# Altium footprint library aiskylab-14Connectors-17HeadersAndWireHousing.PcbLib: 23 footprints (part 1 of 2)
Each footprint in its own frame and in the unit in brackets; x right, y up, seen from the top. Pads: shape width x height; smd on the part's side, far side on the other; paste and mask are expansions set on the pad; w line width, h text height; cw(c..) or ccw(c..) is an arc to the next point about the centre after c.
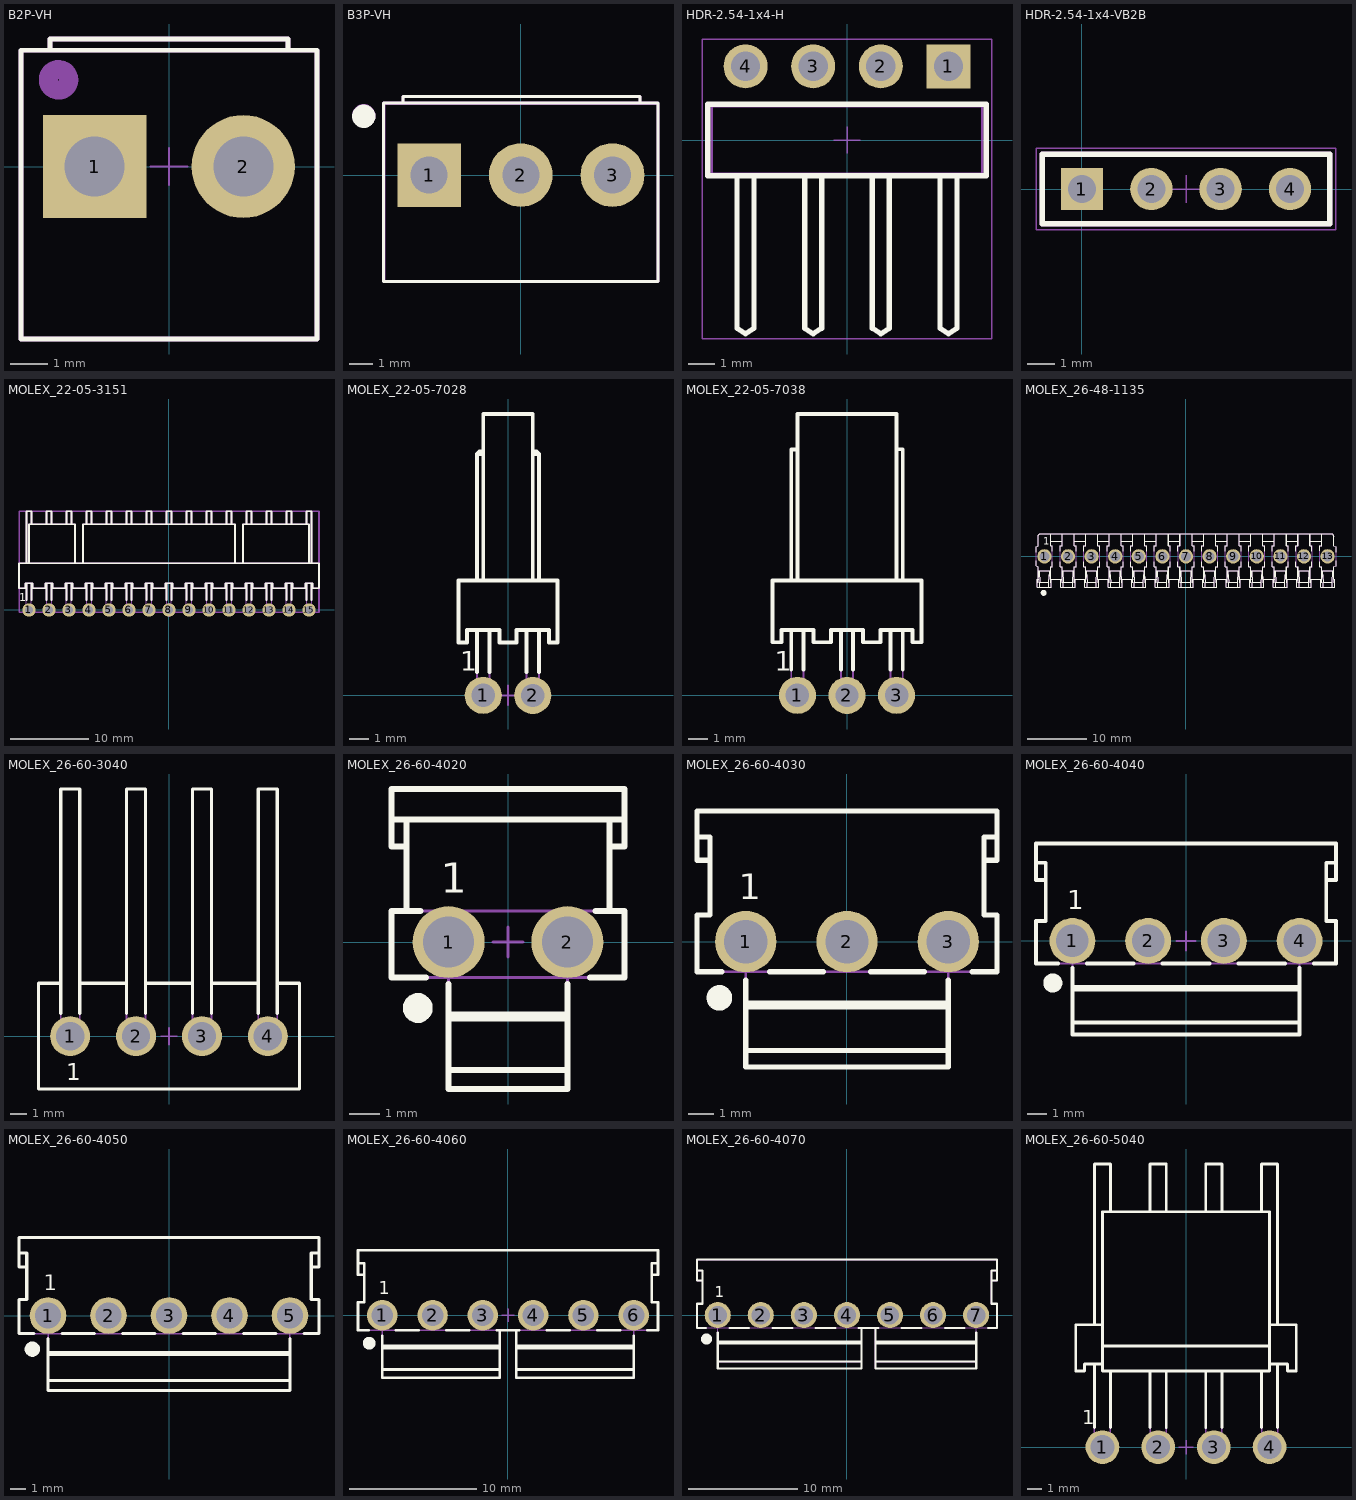
[diagram p0: the footprints below, top view; thin cyan lines are the x and y axes]

## B2P-VH [mm] "VH Connector , Pitch 3.96mm"
height 14.6
pads (2):
  rect 2.75x2.75 hole 1.6: 1(-1.98,0)
  round 2.75 hole 1.6: 2(1.98,0)
Top Overlay:
  lines w0.127: -3.175,3.1 -3.175,3.4 3.175,3.4 3.175,3.1 ; -3.95,-4.6 3.95,-4.6 3.95,3.1 -3.95,3.1 -3.95,-4.6
Top Designator:
  text ".Designator" at -7.618,-0.908 h1.52
Top Assembly:
  circle w0.508: c-2.946,2.311 r0.274
  lines w0.127: -3.175,3.1 -3.175,3.4 3.175,3.4 3.175,3.1 ; -3.95,-4.6 3.95,-4.6 3.95,3.1 -3.95,3.1 -3.95,-4.6
Top Component Center:
  lines w0.05: -0.5,0 0.5,0 ; 0,-0.5 0,0.5
Top Component Outline:
  lines w0.127: -3.175,3.1 -3.175,3.4 3.175,3.4 3.175,3.1 ; -3.95,-4.6 3.95,-4.6 3.95,3.1 -3.95,3.1 -3.95,-4.6
3D body "b2p-vh.stp": height 10.9, standoff -3.5, extent -3.96,-4.95 3.9,4.15

## B3P-VH [mm]
height 14.6
pads (3):
  rect 2.75x2.75 hole 1.6: 1(-3.96,0)
  round 2.75 hole 1.6: 2(0,0) 3(3.96,0)
Top Overlay:
  circle w0.508: c-6.782,2.54 r0.25
  lines w0.127: -5.08,3.118 -5.08,3.4 5.155,3.4 5.155,3.118 ; -5.925,-4.6 -5.925,3.118 5.925,3.118 5.925,-4.6 -5.925,-4.6
Top Designator:
  text ".Designator" at -8.266,-0.908 h1.52
Top Assembly:
  circle w0.508: c-6.782,2.565 r0.25
  lines w0.127: -5.08,3.118 -5.08,3.4 5.155,3.4 5.155,3.118 ; -5.925,-4.6 -5.925,3.118 5.925,3.118 5.925,-4.6 -5.925,-4.6
Top Component Center:
  lines w0.05: -0.5,0 0.5,0 ; 0,-0.5 0,0.5
Top Component Outline:
  lines w0.127: 5.918,3.042 5.918,-4.6 -5.918,-4.6 -5.918,3.093 5.918,3.093
3D body "b3p-vh.stp": height 10.2, standoff -3.5, extent -5.91,-4.95 5.91,4.15

## HDR-2.54-1x4-H [mm] "Pin Header, pitch 2.54 mm, THT, Angled, single row, 4p"
height 2.54
pads (4):
  rect 1.65x1.65 hole 1.1: 1(3.81,2.77)
  round 1.65 hole 1.1: 2(1.27,2.77) 3(-1.27,2.77) 4(-3.81,2.77)
Top Overlay:
  lines w0.2: -4.13,-1.345 -4.13,-7.07 -3.81,-7.27 -3.49,-7.07 -3.49,-1.345 ; -1.59,-1.345 -1.59,-7.07 -1.27,-7.27 -0.95,-7.07 -0.95,-1.345 ; 0.95,-1.345 0.95,-7.07 1.27,-7.27 1.59,-7.07 1.59,-1.345 ; 3.49,-1.345 3.49,-7.07 3.81,-7.27 4.13,-7.07 4.13,-1.345 ; -5.23,-1.345 5.23,-1.345 5.23,1.345 -5.23,1.345 -5.23,-1.345
Top Designator:
  text ".Designator" at -7.618,-2.345 h1.52
Top Assembly:
  lines w0.1: -4.13,-1.27 -4.13,-7.07 -3.81,-7.27 -3.49,-7.07 -3.49,-1.27 ; -1.59,-1.27 -1.59,-7.07 -1.27,-7.27 -0.95,-7.07 -0.95,-1.27 ; 0.95,-1.27 0.95,-7.07 1.27,-7.27 1.59,-7.07 1.59,-1.27 ; 3.49,-1.27 3.49,-7.07 3.81,-7.27 4.13,-7.07 4.13,-1.27 ; -5.08,-1.27 5.08,-1.27 5.08,1.27 -5.08,1.27 -5.08,-1.27
Top Component Center:
  lines w0.05: -0.5,0 0.5,0 ; 0,-0.5 0,0.5
Top Component Outline:
  lines w0.05: -5.43,-7.47 5.43,-7.47 5.43,3.795 -5.43,3.795 -5.43,-7.47
3D body "61300411021.stp": height 2.58, standoff -2.96, extent -5.08,-7.27 5.08,3.09

## HDR-2.54-1x4-VB2B [mm] ".025 SQ Post Terminal Strip Assembly, 1x4 Pins, Vertical, 2.54mm Pitch, Male"
height 8.58
pads (4):
  rect 1.55x1.55 hole 1.02: 1(0,0)
  round 1.55 hole 1.02: 2(2.54,0) 3(5.08,0) 4(7.62,0)
Top Overlay:
  lines w0.2: -1.46,-1.27 9.08,-1.27 9.08,1.27 -1.46,1.27 -1.46,-1.27
Top Designator:
  text ".Designator" at -3.808,-0.508 h1.52
Top Assembly:
  lines w0.2: -1.46,-1.27 9.08,-1.27 9.08,1.27 -1.46,1.27 -1.46,-1.27
Top Component Center:
  lines w0.05: 3.31,0 4.31,0 ; 3.81,-0.5 3.81,0.5
Top Component Outline:
  lines w0.05: -1.685,-1.495 9.305,-1.495 9.305,1.495 -1.685,1.495 -1.685,-1.495
Top 3D Body:
  lines w0.1: -1.46,-1.27 9.08,-1.27 9.08,1.27 -1.46,1.27 -1.46,-1.27
3D body "TSW-104-08-X-S.step": height 8.38, standoff -5.08, extent -1.27,-1.27 8.89,1.27

## MOLEX_22-05-3151 [mm] "2.54mm (.100\") Pitch KK?Wire-To-Board Header, Right Angle, With Friction Lock, 15 Circuits"
height 6.6
pads (15):
  round 1.7 hole 1: 1(-17.78,0) 2(-15.24,0) 3(-12.7,0) 4(-10.16,0) 5(-7.62,0) 6(-5.08,0) 7(-2.54,0) 8(0,0) 9(2.54,0) 10(5.08,0) 11(7.62,0) 12(10.16,0) 13(12.7,0) 14(15.24,0) 15(17.78,0)
Top Overlay:
  lines w0.2: -18.098,1.25 -18.098,3.366 ; -18.098,5.906 -18.098,12.51 -17.462,12.51 -17.462,10.909 ; -17.78,5.906 -17.78,10.909 -11.938,10.909 -11.938,5.906 ; -17.462,1.25 -17.462,3.366 ; -15.557,1.25 -15.557,3.366 ; -15.557,10.909 -15.557,12.51 -14.922,12.51 -14.922,10.909 ; -14.922,1.25 -14.922,3.366 ; -13.017,1.25 -13.017,3.366 ; -13.017,10.909 -13.017,12.51 -12.382,12.51 -12.382,10.909 ; -12.382,1.25 -12.382,3.366 ; -10.922,5.906 -10.922,10.909 8.382,10.909 8.382,5.906 ; -10.477,1.25 -10.477,3.366 ; -10.477,10.909 -10.477,12.51 -9.842,12.51 -9.842,10.909 ; -9.842,1.25 -9.842,3.366 ; -7.937,1.25 -7.937,3.366 ; -7.937,10.909 -7.937,12.51 -7.302,12.51 -7.302,10.909 ; -7.302,1.25 -7.302,3.366 ; -5.397,1.25 -5.397,3.366 ; -5.397,10.909 -5.397,12.51 -4.762,12.51 -4.762,10.909 ; -4.762,1.25 -4.762,3.366 ; -2.857,1.25 -2.857,3.366 ; -2.857,10.909 -2.857,12.51 -2.222,12.51 -2.222,10.909 ; -2.222,1.25 -2.222,3.366 ; -0.317,1.25 -0.317,3.366 ; -0.317,10.909 -0.317,12.51 0.318,12.51 0.318,10.909 ; 0.318,1.25 0.318,3.366 ; 2.223,1.25 2.223,3.366 ; 2.223,10.909 2.223,12.51 2.858,12.51 2.858,10.909 ; 2.858,1.25 2.858,3.366 ; 4.763,1.25 4.763,3.366 ; 4.763,10.909 4.763,12.51 5.398,12.51 5.398,10.909 ; 5.398,1.25 5.398,3.366 ; 7.303,1.25 7.303,3.366 ; 7.303,10.909 7.303,12.51 7.938,12.51 7.938,10.909 ; 7.938,1.25 7.938,3.366 ; 9.398,5.906 9.398,10.909 17.78,10.909 17.78,5.906 ; 9.843,1.25 9.843,3.366 ; 9.843,10.909 9.843,12.51 10.478,12.51 10.478,10.909 ; 10.478,1.25 10.478,3.366 ; 12.383,1.25 12.383,3.366 ; 12.383,10.909 12.383,12.51 13.018,12.51 13.018,10.909 ; 13.018,1.25 13.018,3.366 ; 14.923,1.25 14.923,3.366 ; 14.923,10.909 14.923,12.51 15.558,12.51 15.558,10.909 ; 15.558,1.25 15.558,3.366 ; 17.463,1.25 17.463,3.366 ; 17.463,10.909 17.463,12.51 18.098,12.51 18.098,5.906 ; 18.098,1.25 18.098,3.366 ; -19.05,2.731 -18.224,2.731 -18.224,3.366 -17.335,3.366 -17.335,2.731 -15.684,2.731 -15.684,3.366 -14.795,3.366 -14.795,2.731 -13.144,2.731 -13.144,3.366 -12.255,3.366 -12.255,2.731 -10.604,2.731 -10.604,3.366 -9.715,3.366 -9.715,2.731 -8.064,2.731 -8.064,3.366 -7.175,3.366 -7.175,2.731 -5.524,2.731 -5.524,3.366 -4.635,3.366 -4.635,2.731 -2.984,2.731 -2.984,3.366 -2.095,3.366 -2.095,2.731 -0.444,2.731 -0.444,3.366 0.445,3.366 0.445,2.731 2.096,2.731 2.096,3.366 2.985,3.366 2.985,2.731 4.636,2.731 4.636,3.366 5.525,3.366 5.525,2.731 7.176,2.731 7.176,3.366 8.065,3.366 8.065,2.731 9.716,2.731 9.716,3.366 10.605,3.366 10.605,2.731 12.256,2.731 12.256,3.366 13.145,3.366 13.145,2.731 14.796,2.731 14.796,3.366 15.685,3.366 15.685,2.731 17.336,2.731 17.336,3.366 18.225,3.366 18.225,2.731 19.05,2.731 19.05,5.906 -19.05,5.906 -19.05,2.731
  text "1" at -19.027,1.12 h1
Top Designator:
  text ".Designator" at -7.631,5.327 h1.52
Top Assembly:
  lines w0.2: -18.098,1.25 -18.098,3.366 ; -18.098,5.906 -18.098,12.51 -17.462,12.51 -17.462,10.909 ; -17.78,5.906 -17.78,10.909 -11.938,10.909 -11.938,5.906 ; -17.462,1.25 -17.462,3.366 ; -15.557,1.25 -15.557,3.366 ; -15.557,10.909 -15.557,12.51 -14.922,12.51 -14.922,10.909 ; -14.922,1.25 -14.922,3.366 ; -13.017,1.25 -13.017,3.366 ; -13.017,10.909 -13.017,12.51 -12.382,12.51 -12.382,10.909 ; -12.382,1.25 -12.382,3.366 ; -10.922,5.906 -10.922,10.909 8.382,10.909 8.382,5.906 ; -10.477,1.25 -10.477,3.366 ; -10.477,10.909 -10.477,12.51 -9.842,12.51 -9.842,10.909 ; -9.842,1.25 -9.842,3.366 ; -7.937,1.25 -7.937,3.366 ; -7.937,10.909 -7.937,12.51 -7.302,12.51 -7.302,10.909 ; -7.302,1.25 -7.302,3.366 ; -5.397,1.25 -5.397,3.366 ; -5.397,10.909 -5.397,12.51 -4.762,12.51 -4.762,10.909 ; -4.762,1.25 -4.762,3.366 ; -2.857,1.25 -2.857,3.366 ; -2.857,10.909 -2.857,12.51 -2.222,12.51 -2.222,10.909 ; -2.222,1.25 -2.222,3.366 ; -0.317,1.25 -0.317,3.366 ; -0.317,10.909 -0.317,12.51 0.318,12.51 0.318,10.909 ; 0.318,1.25 0.318,3.366 ; 2.223,1.25 2.223,3.366 ; 2.223,10.909 2.223,12.51 2.858,12.51 2.858,10.909 ; 2.858,1.25 2.858,3.366 ; 4.763,1.25 4.763,3.366 ; 4.763,10.909 4.763,12.51 5.398,12.51 5.398,10.909 ; 5.398,1.25 5.398,3.366 ; 7.303,1.25 7.303,3.366 ; 7.303,10.909 7.303,12.51 7.938,12.51 7.938,10.909 ; 7.938,1.25 7.938,3.366 ; 9.398,5.906 9.398,10.909 17.78,10.909 17.78,5.906 ; 9.843,1.25 9.843,3.366 ; 9.843,10.909 9.843,12.51 10.478,12.51 10.478,10.909 ; 10.478,1.25 10.478,3.366 ; 12.383,1.25 12.383,3.366 ; 12.383,10.909 12.383,12.51 13.018,12.51 13.018,10.909 ; 13.018,1.25 13.018,3.366 ; 14.923,1.25 14.923,3.366 ; 14.923,10.909 14.923,12.51 15.558,12.51 15.558,10.909 ; 15.558,1.25 15.558,3.366 ; 17.463,1.25 17.463,3.366 ; 17.463,10.909 17.463,12.51 18.098,12.51 18.098,5.906 ; 18.098,1.25 18.098,3.366 ; -19.05,2.731 -18.224,2.731 -18.224,3.366 -17.335,3.366 -17.335,2.731 -15.684,2.731 -15.684,3.366 -14.795,3.366 -14.795,2.731 -13.144,2.731 -13.144,3.366 -12.255,3.366 -12.255,2.731 -10.604,2.731 -10.604,3.366 -9.715,3.366 -9.715,2.731 -8.064,2.731 -8.064,3.366 -7.175,3.366 -7.175,2.731 -5.524,2.731 -5.524,3.366 -4.635,3.366 -4.635,2.731 -2.984,2.731 -2.984,3.366 -2.095,3.366 -2.095,2.731 -0.444,2.731 -0.444,3.366 0.445,3.366 0.445,2.731 2.096,2.731 2.096,3.366 2.985,3.366 2.985,2.731 4.636,2.731 4.636,3.366 5.525,3.366 5.525,2.731 7.176,2.731 7.176,3.366 8.065,3.366 8.065,2.731 9.716,2.731 9.716,3.366 10.605,3.366 10.605,2.731 12.256,2.731 12.256,3.366 13.145,3.366 13.145,2.731 14.796,2.731 14.796,3.366 15.685,3.366 15.685,2.731 17.336,2.731 17.336,3.366 18.225,3.366 18.225,2.731 19.05,2.731 19.05,5.906 -19.05,5.906 -19.05,2.731
  text "1" at -19.027,1.12 h1
Top Component Center:
  lines w0.2: -0.711,0 0.787,0 ; 0,-0.787 0,0.787
Top Dimensions:
  lines w0.1: -18.28,0 -17.78,0 ; -17.78,-0.5 -17.78,0 ; -17.78,0.5 -17.78,0 ; -17.28,0 -17.78,0 ; -15.74,0 -15.24,0 ; -15.24,-0.5 -15.24,0 ; -15.24,0.5 -15.24,0 ; -14.74,0 -15.24,0 ; -13.2,0 -12.7,0 ; -12.7,-0.5 -12.7,0 ; -12.7,0.5 -12.7,0 ; -12.2,0 -12.7,0 ; -10.66,0 -10.16,0 ; -10.16,-0.5 -10.16,0 ; -10.16,0.5 -10.16,0 ; -9.66,0 -10.16,0 ; -8.12,0 -7.62,0 ; -7.62,-0.5 -7.62,0 ; -7.62,0.5 -7.62,0 ; -7.12,0 -7.62,0 ; -5.58,0 -5.08,0 ; -5.08,-0.5 -5.08,0 ; -5.08,0.5 -5.08,0 ; -4.58,0 -5.08,0 ; -3.04,0 -2.54,0 ; -2.54,-0.5 -2.54,0 ; -2.54,0.5 -2.54,0 ; -2.04,0 -2.54,0 ; -0.5,0 0,0 ; 0,-0.5 0,0 ; 0,0.5 0,0 ; 0.5,0 0,0 ; 2.04,0 2.54,0 ; 2.54,-0.5 2.54,0 ; 2.54,0.5 2.54,0 ; 3.04,0 2.54,0 ; 4.58,0 5.08,0 ; 5.08,-0.5 5.08,0 ; 5.08,0.5 5.08,0 ; 5.58,0 5.08,0 ; 7.12,0 7.62,0 ; 7.62,-0.5 7.62,0 ; 7.62,0.5 7.62,0 ; 8.12,0 7.62,0 ; 9.66,0 10.16,0 ; 10.16,-0.5 10.16,0 ; 10.16,0.5 10.16,0 ; 10.66,0 10.16,0 ; 12.2,0 12.7,0 ; 12.7,-0.5 12.7,0 ; 12.7,0.5 12.7,0 ; 13.2,0 12.7,0 ; 14.74,0 15.24,0 ; 15.24,-0.5 15.24,0 ; 15.24,0.5 15.24,0 ; 15.74,0 15.24,0 ; 17.28,0 17.78,0 ; 17.78,-0.5 17.78,0 ; 17.78,0.5 17.78,0 ; 18.28,0 17.78,0
Top Component Outline:
  lines w0.2: -19.025,-0.305 19.05,-0.305 19.05,12.522 -19.025,12.522 -19.025,-0.305
Top 3D Body:
  drawing of 163 lines, arcs and shapes, not listed
  text "1" at -19.027,1.12 h1
3D body "MOLEX_22-05-3151.stp": height 6.35, standoff -3.58, extent -19.05,-0.317 19.05,12.51

## MOLEX_22-05-7028 [mm] "2.54mm (.100\") Pitch KK?Wire-To-Board Header, Right Angle, With Friction Lock, 2 Circuits"
height 5.8
pads (2):
  round 1.9 hole 1.2: 1(-1.27,0.002) 2(1.27,-0.002)
Top Overlay:
  lines w0.2: -1.587,1.209 -1.587,3.355 ; -1.587,5.895 -1.587,12.368 ; -1.27,5.895 -1.27,14.42 1.27,14.42 1.27,5.895 ; -1.27,12.368 -1.587,12.368 ; -1.27,12.495 -1.46,12.495 -1.587,12.368 ; -0.953,1.209 -0.953,3.355 ; 0.953,1.209 0.953,3.355 ; 1.27,12.368 1.587,12.368 ; 1.27,12.495 1.46,12.495 1.587,12.368 ; 1.587,1.209 1.587,3.355 ; 1.587,5.895 1.587,12.368 ; -2.54,2.72 -2.54,5.895 2.54,5.895 2.54,2.72 2.095,2.72 2.095,3.355 0.445,3.355 0.445,2.72 -0.445,2.72 -0.445,3.355 -2.095,3.355 -2.095,2.72 -2.54,2.72
  text "1" at -2.442,1.27 h1
Top Designator:
  text ".Designator" at -7.618,6.225 h1.52
Top Assembly:
  lines w0.1: -1.587,3.355 -1.587,-0.318 -0.953,-0.318 -0.953,3.355 ; -1.587,5.895 -1.587,12.368 ; -1.27,5.895 -1.27,14.42 1.27,14.42 1.27,5.895 ; -1.27,12.368 -1.587,12.368 ; -1.27,12.495 -1.46,12.495 -1.587,12.368 ; 0.953,3.355 0.953,-0.318 1.587,-0.318 1.587,3.355 ; 1.27,12.368 1.587,12.368 ; 1.27,12.495 1.46,12.495 1.587,12.368 ; 1.587,5.895 1.587,12.368 ; -2.54,2.72 -2.095,2.72 -2.095,3.355 -0.445,3.355 -0.445,2.72 0.445,2.72 0.445,3.355 2.095,3.355 2.095,2.72 2.54,2.72 2.54,5.895 -2.54,5.895 -2.54,2.72
  text "1" at -2.442,1.27 h1
Top Component Center:
  lines w0.1: -1.77,0 -1.27,0 ; -1.27,-0.5 -1.27,0 ; -1.27,0.5 -1.27,0 ; -0.77,0 -1.27,0 ; -0.5,0 0,0 ; 0,-0.5 0,0 ; 0,0.5 0,0 ; 0.5,0 0,0 ; 0.77,0 1.27,0 ; 1.27,-0.5 1.27,0 ; 1.27,0.5 1.27,0 ; 1.77,0 1.27,0
3D body "v190-120.stp": height 0.02, standoff -1.65, extent -2.22,-0.948 -0.32,0.952
3D body "v190-120.stp": height 0.02, standoff -1.65, extent 0.32,-0.952 2.22,0.948
3D body "MOLEX_22-05-7028.stp": height 5.84, standoff -3.8, extent -2.54,-0.317 2.54,14.42

## MOLEX_22-05-7038 [mm] "2.54mm (.100\") Pitch KK?Wire-To-Board Header, Right Angle, With Friction Lock, 3 Circuits"
height 5.8
pads (3):
  round 1.9 hole 1.2: 1(-2.54,0) 2(0,-0.005) 3(2.54,0)
Top Overlay:
  lines w0.2: -2.858,1.312 -2.858,3.355 ; -2.858,5.895 -2.858,12.605 -2.54,12.605 ; -2.54,5.895 -2.54,14.42 2.54,14.42 2.54,5.895 ; -2.222,1.312 -2.222,3.355 ; -0.318,1.312 -0.318,3.355 ; 0.318,1.312 0.318,3.355 ; 2.222,1.312 2.222,3.355 ; 2.54,12.634 2.858,12.605 2.858,5.895 ; 2.858,1.312 2.858,3.355 ; -3.81,2.72 -3.81,5.895 ; -3.81,2.72 -3.366,2.72 -3.366,3.355 -1.714,3.355 -1.714,2.72 -0.826,2.72 -0.826,3.355 0.826,3.355 0.826,2.72 1.714,2.72 1.714,3.355 3.366,3.355 3.366,2.72 3.81,2.72 3.81,5.895 -3.81,5.895 ; -3.81,2.72 -3.81,5.895
  text "1" at -3.712,1.268 h1
Top Designator:
  text ".Designator" at -7.618,6.224 h1.52
Top Assembly:
  lines w0.1: -2.858,3.355 -2.858,-0.318 -2.222,-0.318 -2.222,3.355 ; -2.858,5.895 -2.858,12.605 -2.54,12.605 ; -2.54,5.895 -2.54,14.42 2.54,14.42 2.54,5.895 ; -0.318,3.355 -0.318,-0.318 0.318,-0.318 0.318,3.355 ; 2.222,3.355 2.222,-0.318 2.858,-0.318 2.858,3.355 ; 2.54,12.634 2.858,12.605 2.858,5.895 ; -3.81,2.72 -3.81,5.895 ; -3.81,2.72 -3.81,5.895 ; -3.81,2.72 -3.366,2.72 -3.366,3.355 -1.714,3.355 -1.714,2.72 -0.826,2.72 -0.826,3.355 0.826,3.355 0.826,2.72 1.714,2.72 1.714,3.355 3.366,3.355 3.366,2.72 3.81,2.72 3.81,5.895 -3.81,5.895
  text "1" at -3.712,1.268 h1
Top Component Center:
  lines w0.1: -3.04,0 -2.54,0 ; -2.54,-0.5 -2.54,0 ; -2.54,0.5 -2.54,0 ; -2.04,0 -2.54,0 ; -0.5,0 0,0 ; 0,-0.5 0,0 ; 0,0.5 0,0 ; 0.5,0 0,0 ; 2.04,0 2.54,0 ; 2.54,-0.5 2.54,0 ; 2.54,0.5 2.54,0 ; 3.04,0 2.54,0
3D body "MOLEX_22-05-7038.stp": height 5.84, standoff -3.8, extent -3.81,-0.317 3.81,14.42
3D body "v190-120.stp": height 0.02, standoff -1.65, extent 1.59,-0.95 3.49,0.95
3D body "v190-120.stp": height 0.02, standoff -1.65, extent -0.95,-0.95 0.95,0.95
3D body "v190-120.stp": height 0.02, standoff -1.65, extent -3.49,-0.95 -1.59,0.95

## MOLEX_26-48-1135 [mm] "3.96mm (.156\") Pitch KK?Header, Breakaway, Vertical, Square Pin, with Friction Lock,  13 Circuits, Tin (Sn) Plating"
height 14.68
pads (13):
  round 2.4 hole 1.7: 1(-23.772,0) 2(-19.81,0) 3(-15.848,0) 4(-11.886,0) 5(-7.924,0) 6(-3.962,0) 7(0,0) 8(3.962,0) 9(7.924,0) 10(11.886,0) 11(15.848,0) 12(19.81,0) 13(23.772,0)
Top Overlay:
  drawing of 485 lines, arcs and shapes, not listed
  text "1" at -23.975,1.95 h1.2
Top Designator:
  text ".Designator" at -7.617,-1.865 h1.52
Top Assembly:
  drawing of 418 lines, arcs and shapes, not listed
  text "1" at -23.975,1.95 h1.2
Top Component Center:
  lines w0.1: -24.26,0 -23.76,0 ; -23.76,-0.5 -23.76,0 ; -23.76,0.5 -23.76,0 ; -23.26,0 -23.76,0 ; -20.3,0 -19.8,0 ; -19.8,-0.5 -19.8,0 ; -19.8,0.5 -19.8,0 ; -19.3,0 -19.8,0 ; -16.34,0 -15.84,0 ; -15.84,-0.5 -15.84,0 ; -15.84,0.5 -15.84,0 ; -15.34,0 -15.84,0 ; -12.38,0 -11.88,0 ; -11.88,-0.5 -11.88,0 ; -11.88,0.5 -11.88,0 ; -11.38,0 -11.88,0 ; -8.42,0 -7.92,0 ; -7.92,-0.5 -7.92,0 ; -7.92,0.5 -7.92,0 ; -7.42,0 -7.92,0 ; -4.46,0 -3.96,0 ; -3.96,-0.5 -3.96,0 ; -3.96,0.5 -3.96,0 ; -3.46,0 -3.96,0 ; -0.5,0 0,0 ; 0,-0.5 0,0 ; 0,0.5 0,0 ; 0.5,0 0,0 ; 3.46,0 3.96,0 ; 3.96,-0.5 3.96,0 ; 3.96,0.5 3.96,0 ; 4.46,0 3.96,0 ; 7.42,0 7.92,0 ; 7.92,-0.5 7.92,0 ; 7.92,0.5 7.92,0 ; 8.42,0 7.92,0 ; 11.38,0 11.88,0 ; 11.88,-0.5 11.88,0 ; 11.88,0.5 11.88,0 ; 12.38,0 11.88,0 ; 15.34,0 15.84,0 ; 15.84,-0.5 15.84,0 ; 15.84,0.5 15.84,0 ; 16.34,0 15.84,0 ; 19.3,0 19.8,0 ; 19.8,-0.5 19.8,0 ; 19.8,0.5 19.8,0 ; 20.3,0 19.8,0 ; 23.26,0 23.76,0 ; 23.76,-0.5 23.76,0 ; 23.76,0.5 23.76,0 ; 24.26,0 23.76,0
3D body "MOLEX_26-48-1135.stp": height 14.68, standoff -4.37, extent -25.184,-5.207 25.184,3.81

## MOLEX_26-60-3040 [mm] "3.96mm (.156\") Pitch KK?Solid Header,Right Angle, 4 Circuits, Tin (Sn) Plating"
height 9
pads (4):
  round 2.4 hole 1.7: 1(-5.944,0) 2(-1.981,0) 3(1.981,0) 4(5.944,0)
Top Overlay:
  lines w0.2: -6.515,1.387 -6.515,14.859 -5.372,14.859 -5.372,1.387 ; -6.515,3.175 -7.849,3.175 -7.849,-3.175 7.849,-3.175 7.849,3.175 6.515,3.175 ; -5.372,3.175 -2.553,3.175 ; -2.553,1.387 -2.553,14.859 -1.41,14.859 -1.41,1.387 ; -1.41,3.175 1.41,3.175 ; 1.41,1.387 1.41,14.859 2.553,14.859 2.553,1.387 ; 2.553,3.175 5.372,3.175 ; 5.372,1.387 5.372,14.859 6.515,14.859 6.515,1.387
  text "1" at -6.163,-2.655 h1
Top Designator:
  text ".Designator" at -7.618,5.334 h1.52
Top Assembly:
  lines w0.1: -6.515,3.175 -7.849,3.175 -7.849,-3.175 7.849,-3.175 7.849,3.175 6.515,3.175 ; -5.372,3.175 -2.553,3.175 ; -1.41,3.175 1.41,3.175 ; 2.553,3.175 5.372,3.175 ; -6.515,-0.572 -5.372,-0.572 -5.372,14.859 -6.515,14.859 -6.515,-0.572 ; -2.553,-0.572 -1.41,-0.572 -1.41,14.859 -2.553,14.859 -2.553,-0.572 ; 1.41,-0.572 2.553,-0.572 2.553,14.859 1.41,14.859 1.41,-0.572 ; 5.372,-0.572 6.515,-0.572 6.515,14.859 5.372,14.859 5.372,-0.572
  text "1" at -6.163,-2.655 h1
Top Component Center:
  lines w0.1: -6.444,0 -5.944,0 ; -5.944,-0.5 -5.944,0 ; -5.944,0.5 -5.944,0 ; -5.444,0 -5.944,0 ; -2.481,0 -1.981,0 ; -1.981,-0.5 -1.981,0 ; -1.981,0.5 -1.981,0 ; -1.481,0 -1.981,0 ; -0.5,0 0,0 ; 0,-0.5 0,0 ; 0,0.5 0,0 ; 0.5,0 0,0 ; 1.481,0 1.981,0 ; 1.981,-0.5 1.981,0 ; 1.981,0.5 1.981,0 ; 2.481,0 1.981,0 ; 5.444,0 5.944,0 ; 5.944,-0.5 5.944,0 ; 5.944,0.5 5.944,0 ; 6.444,0 5.944,0
3D body "MOLEX_26-60-3040.stp": height 8.83, standoff -3.56, extent -7.848,-3.175 7.849,14.859

## MOLEX_26-60-4020 [mm] "3.96mm (.156\") Pitch KK?Solid Header, Vertical, Friction Lock, 2 Circuits, Tin (Sn) Plating"
height 14.73
pads (2):
  round 2.4 hole 1.7: 1(-1.981,0) 2(1.981,0)
Top Overlay:
  circle w0.5: c-3.011,-2.2 r0.25
  lines w0.2: -3.886,4.089 3.886,4.089 ; -3.378,1.041 -3.378,4.089 ; -3.378,3.182 -3.886,3.182 -3.886,5.105 3.886,5.105 3.886,3.182 3.378,3.182 ; -2.917,1.041 -3.886,1.041 -3.886,-1.181 -2.733,-1.181 ; -1.981,-4.267 1.981,-4.267 ; -1.981,-2.548 1.981,-2.548 ; -1.981,-2.413 1.981,-2.413 ; -1.981,-1.4 -1.981,-4.902 1.981,-4.902 1.981,-1.4 ; 2.733,-1.181 3.886,-1.181 3.886,1.041 2.917,1.041 ; 3.378,1.041 3.378,4.089
  text "1" at -2.249,1.65 h1
Top Designator:
  text ".Designator" at -7.618,-0.406 h1.52
Top Assembly:
  lines w0.1: -3.886,4.089 3.886,4.089 ; -3.378,1.041 -3.378,4.089 ; -3.378,3.182 -3.886,3.182 -3.886,5.105 3.886,5.105 3.886,3.182 3.378,3.182 ; -1.981,-4.267 1.981,-4.267 ; -1.981,-2.548 1.981,-2.548 ; -1.981,-2.413 1.981,-2.413 ; -1.981,-1.181 -1.981,-4.902 1.981,-4.902 1.981,-1.181 ; 2.55,-0.571 2.55,0.571 ; 3.378,1.041 3.378,4.089 ; -3.886,-1.181 3.886,-1.181 3.886,1.041 -3.886,1.041 -3.886,-1.181
  text "1" at -2.249,1.65 h1
Top Component Center:
  lines w0.1: -2.481,0 -1.981,0 ; -1.981,-0.5 -1.981,0 ; -1.981,0.5 -1.981,0 ; -1.481,0 -1.981,0 ; -0.5,0 0,0 ; 0,-0.5 0,0 ; 0,0.5 0,0 ; 0.5,0 0,0 ; 1.481,0 1.981,0 ; 1.981,-0.5 1.981,0 ; 1.981,0.5 1.981,0 ; 2.481,0 1.981,0
3D body "MOLEX_26-60-4020.stp": height 14.73, standoff -3.56, extent -3.886,-4.902 3.886,5.106

## MOLEX_26-60-4030 [mm] "3.96mm (.156\") Pitch KK?Solid Header, Vertical, Friction Lock, 3 Circuits, Tin (Sn) Plating"
height 14.73
pads (3):
  round 2.4 hole 1.7: 1(-3.96,0) 2(0,0) 3(3.96,0)
Top Overlay:
  circle w0.5: c-4.99,-2.2 r0.25
  lines w0.2: -5.864,4.087 -5.356,4.087 -5.356,1.041 -5.864,1.041 -5.864,-1.18 -4.886,-1.18 ; -5.356,3.18 -5.864,3.18 -5.864,5.102 5.864,5.102 5.864,3.18 5.356,3.18 ; -3.96,-4.265 3.96,-4.265 ; -3.96,-2.546 3.96,-2.546 ; -3.96,-2.412 3.96,-2.412 ; -3.96,-1.5 -3.96,-4.899 3.96,-4.899 3.96,-1.5 ; -3.034,-1.18 -0.926,-1.18 ; 0.926,-1.18 3.034,-1.18 ; 4.886,-1.18 5.864,-1.18 5.864,1.041 5.356,1.041 5.356,4.087 5.864,4.087
  text "1" at -4.228,1.65 h1
Top Designator:
  text ".Designator" at -7.618,-0.406 h1.52
Top Assembly:
  lines w0.1: -5.864,4.087 -5.356,4.087 -5.356,1.041 -5.864,1.041 -5.864,-1.18 5.864,-1.18 5.864,1.041 5.356,1.041 5.356,4.087 5.864,4.087 ; -5.356,3.18 -5.864,3.18 -5.864,5.102 5.864,5.102 5.864,3.18 5.356,3.18 ; -3.96,-4.265 3.96,-4.265 ; -3.96,-2.546 3.96,-2.546 ; -3.96,-2.412 3.96,-2.412 ; -3.96,-1.18 -3.96,-4.899 3.96,-4.899 3.96,-1.18 ; -4.531,-0.571 -3.389,-0.571 -3.389,0.571 -4.531,0.571 -4.531,-0.571 ; -0.571,-0.571 0.571,-0.571 0.571,0.571 -0.571,0.571 -0.571,-0.571 ; 3.389,-0.571 4.531,-0.571 4.531,0.571 3.389,0.571 3.389,-0.571
  text "1" at -4.228,1.65 h1
Top Component Center:
  lines w0.1: -4.46,0 -3.96,0 ; -3.96,-0.5 -3.96,0 ; -3.96,0.5 -3.96,0 ; -3.46,0 -3.96,0 ; -0.5,0 0,0 ; 0,-0.5 0,0 ; 0,0.5 0,0 ; 0.5,0 0,0 ; 3.46,0 3.96,0 ; 3.96,-0.5 3.96,0 ; 3.96,0.5 3.96,0 ; 4.46,0 3.96,0
3D body "MOLEX_26-60-4030.stp": height 14.73, standoff -3.56, extent -5.864,-4.899 5.871,5.109

## MOLEX_26-60-4040 [mm] "3.96mm (.156\") Pitch KK?Solid Header, Vertical, Friction Lock, 4 Circuits, Tin (Sn) Plating"
height 14.73
pads (4):
  round 2.4 hole 1.7: 1(-5.94,0) 2(-1.98,0) 3(1.98,0) 4(5.94,0)
Top Overlay:
  circle w0.5: c-6.97,-2.2 r0.25
  lines w0.2: -7.849,4.089 -7.341,4.089 -7.341,3.181 ; -6.691,-1.181 -7.849,-1.181 -7.849,1.041 -7.341,1.041 -7.341,3.181 ; -5.944,-4.268 5.944,-4.268 ; -5.944,-2.548 5.944,-2.548 ; -5.944,-2.413 5.944,-2.413 ; -5.944,-1.4 -5.944,-4.898 5.944,-4.903 5.944,-1.4 ; -5.189,-1.181 -2.731,-1.181 ; -1.229,-1.181 1.229,-1.181 ; 2.731,-1.181 5.189,-1.181 ; 6.691,-1.181 7.849,-1.181 7.849,1.041 7.341,1.041 7.341,3.181 ; 7.849,4.089 7.341,4.089 7.341,3.181 ; -7.341,3.181 -7.849,3.181 -7.849,5.105 7.849,5.105 7.849,3.181 7.341,3.181
  text "1" at -6.208,1.65 h1
Top Designator:
  text ".Designator" at -7.618,-0.407 h1.52
Top Assembly:
  lines w0.1: -7.849,4.089 -7.341,4.089 -7.341,3.181 ; -5.944,-4.268 5.944,-4.268 ; -5.944,-2.548 5.944,-2.548 ; -5.944,-2.413 5.944,-2.413 ; 7.849,4.089 7.341,4.089 7.341,3.181 ; -7.341,3.181 -7.849,3.181 -7.849,5.105 7.849,5.105 7.849,3.181 7.341,3.181 ; -7.341,3.181 -7.341,1.041 -7.849,1.041 -7.849,-1.181 -5.944,-1.181 ; -5.944,-1.181 -5.944,-4.898 5.944,-4.903 5.944,-1.181 ; -5.944,-1.181 5.944,-1.181 ; 5.944,-1.181 7.849,-1.181 7.849,1.041 7.341,1.041 7.341,3.181
  text "1" at -6.208,1.65 h1
Top Component Center:
  lines w0.05: -0.5,0 0.5,0 ; 0,-0.5 0,0.5
Bottom Dimensions:
  lines w0.1: -6.44,0 -5.94,0 ; -5.94,-0.5 -5.94,0 ; -5.94,0.5 -5.94,0 ; -5.44,0 -5.94,0 ; -2.48,0 -1.98,0 ; -1.98,-0.5 -1.98,0 ; -1.98,0.5 -1.98,0 ; -1.48,0 -1.98,0 ; -0.5,0 0,0 ; 0,-0.5 0,0 ; 0,0.5 0,0 ; 0.5,0 0,0 ; 1.48,0 1.98,0 ; 1.98,-0.5 1.98,0 ; 1.98,0.5 1.98,0 ; 2.48,0 1.98,0 ; 5.44,0 5.94,0 ; 5.94,-0.5 5.94,0 ; 5.94,0.5 5.94,0 ; 6.44,0 5.94,0
3D body "MOLEX_26-60-4040.stp": height 14.73, standoff -3.54, extent -7.849,-4.902 7.849,5.105

## MOLEX_26-60-4050 [mm] "3.96mm (.156\") Pitch KK?Solid Header, Vertical, Friction Lock, 5 Circuits, Tin (Sn) Plating"
height 14.73
pads (5):
  round 2.4 hole 1.7: 1(-7.92,0) 2(-3.96,0) 3(0,0) 4(3.96,0) 5(7.92,0)
Top Overlay:
  circle w0.5: c-8.95,-2.2 r0.25
  lines w0.2: -9.824,4.087 -9.316,4.087 -9.316,1.041 -9.824,1.041 -9.824,-1.18 -8.846,-1.18 ; -9.316,3.18 -9.824,3.18 -9.824,5.102 9.824,5.102 9.824,3.18 9.316,3.18 ; -7.92,-4.265 7.92,-4.265 ; -7.92,-2.546 7.92,-2.546 ; -7.92,-2.412 7.92,-2.412 ; -7.92,-1.5 -7.92,-4.899 7.92,-4.899 7.92,-1.5 ; -6.994,-1.18 -4.886,-1.18 ; -3.034,-1.18 -0.926,-1.18 ; 0.926,-1.18 3.034,-1.18 ; 4.886,-1.18 6.994,-1.18 ; 8.846,-1.18 9.824,-1.18 9.824,1.041 9.316,1.041 9.316,4.087 9.824,4.087
  text "1" at -8.188,1.65 h1
Top Designator:
  text ".Designator" at -7.618,-0.406 h1.52
Top Assembly:
  lines w0.1: -9.824,4.087 -9.316,4.087 -9.316,1.041 -9.824,1.041 -9.824,-1.18 9.824,-1.18 9.824,1.041 9.316,1.041 9.316,4.087 9.824,4.087 ; -9.316,3.18 -9.824,3.18 -9.824,5.102 9.824,5.102 9.824,3.18 9.316,3.18 ; -7.92,-4.265 7.92,-4.265 ; -7.92,-2.546 7.92,-2.546 ; -7.92,-2.412 7.92,-2.412 ; -7.92,-1.18 -7.92,-4.899 7.92,-4.899 7.92,-1.18 ; -8.491,-0.571 -8.491,0.571 -7.349,0.571 -7.349,-0.571 -8.491,-0.571 ; -4.531,-0.571 -4.531,0.571 -3.389,0.571 -3.389,-0.571 -4.531,-0.571 ; -0.571,-0.571 -0.571,0.571 0.571,0.571 0.571,-0.571 -0.571,-0.571 ; 3.389,-0.571 3.389,0.571 4.531,0.571 4.531,-0.571 3.389,-0.571 ; 7.349,-0.571 7.349,0.571 8.491,0.571 8.491,-0.571 7.349,-0.571
  text "1" at -8.188,1.65 h1
Top Component Center:
  lines w0.1: -8.42,0 -7.92,0 ; -7.92,-0.5 -7.92,0 ; -7.92,0.5 -7.92,0 ; -7.42,0 -7.92,0 ; -4.46,0 -3.96,0 ; -3.96,-0.5 -3.96,0 ; -3.96,0.5 -3.96,0 ; -3.46,0 -3.96,0 ; -0.5,0 0,0 ; 0,-0.5 0,0 ; 0,0.5 0,0 ; 0.5,0 0,0 ; 3.46,0 3.96,0 ; 3.96,-0.5 3.96,0 ; 3.96,0.5 3.96,0 ; 4.46,0 3.96,0 ; 7.42,0 7.92,0 ; 7.92,-0.5 7.92,0 ; 7.92,0.5 7.92,0 ; 8.42,0 7.92,0
3D body "MOLEX_26-60-4050.stp": height 14.72, standoff -3.55, extent -9.824,-4.899 9.824,5.102

## MOLEX_26-60-4060 [mm] "3.96mm (.156\") Pitch KK?Solid Header, Vertical, Friction Lock, 6 Circuits, Tin (Sn) Plating"
height 14.73
pads (6):
  round 2.4 hole 1.7: 1(-9.9,0) 2(-5.94,0) 3(-1.98,0) 4(1.98,0) 5(5.94,0) 6(9.9,0)
Top Overlay:
  circle w0.5: c-10.93,-2.2 r0.25
  lines w0.2: -11.811,4.089 -11.303,4.089 -11.303,1.041 -11.811,1.041 -11.811,-1.181 -10.979,-1.181 ; -11.303,3.182 -11.811,3.182 -11.811,3.216 -11.811,5.105 11.811,5.105 11.811,3.182 11.303,3.182 ; -9.906,-4.267 -0.635,-4.267 ; -9.906,-2.599 -0.635,-2.599 ; -9.906,-2.413 -0.635,-2.413 ; -9.906,-1.6 -9.906,-4.902 -0.635,-4.902 -0.635,-1.181 ; -8.821,-1.181 -7.019,-1.181 ; -4.861,-1.181 -3.059,-1.181 ; -0.901,-1.181 0.901,-1.181 ; 0.635,-4.267 9.906,-4.267 ; 0.635,-2.599 9.906,-2.599 ; 0.635,-2.413 9.906,-2.413 ; 0.635,-1.181 0.635,-4.902 9.906,-4.902 9.906,-1.6 ; 3.059,-1.181 4.861,-1.181 ; 7.019,-1.181 8.821,-1.181 ; 10.979,-1.181 11.811,-1.181 11.811,1.041 11.303,1.041 11.303,4.089 11.811,4.089
  text "1" at -10.168,1.65 h1
Top Designator:
  text ".Designator" at -7.617,-0.406 h1.52
Top Assembly:
  lines w0.1: -11.811,4.089 -11.303,4.089 -11.303,1.041 -11.811,1.041 -11.811,-1.181 11.811,-1.181 11.811,1.041 11.303,1.041 11.303,4.089 11.811,4.089 ; -11.303,3.182 -11.811,3.182 -11.811,3.216 -11.811,5.105 11.811,5.105 11.811,3.182 11.303,3.182 ; -9.906,-4.267 -0.635,-4.267 ; -9.906,-2.599 -0.635,-2.599 ; -9.906,-2.413 -0.635,-2.413 ; -9.906,-1.181 -9.906,-4.902 -0.635,-4.902 -0.635,-1.181 ; 0.635,-4.267 9.906,-4.267 ; 0.635,-2.599 9.906,-2.599 ; 0.635,-2.413 9.906,-2.413 ; 0.635,-1.181 0.635,-4.902 9.906,-4.902 9.906,-1.181 ; -10.477,-0.572 -10.477,0.572 -9.334,0.572 -9.334,-0.572 -10.477,-0.572 ; -6.515,-0.572 -6.515,0.572 -5.372,0.572 -5.372,-0.572 -6.515,-0.572 ; -2.553,-0.572 -2.553,0.572 -1.41,0.572 -1.41,-0.572 -2.553,-0.572 ; 1.41,-0.572 1.41,0.572 2.553,0.572 2.553,-0.572 1.41,-0.572 ; 5.372,-0.572 5.372,0.572 6.515,0.572 6.515,-0.572 5.372,-0.572 ; 9.335,-0.572 9.335,0.572 10.478,0.572 10.478,-0.572 9.335,-0.572
  text "1" at -10.168,1.65 h1
Top Component Center:
  lines w0.1: -10.4,0 -9.9,0 ; -9.9,-0.5 -9.9,0 ; -9.9,0.5 -9.9,0 ; -9.4,0 -9.9,0 ; -6.44,0 -5.94,0 ; -5.94,-0.5 -5.94,0 ; -5.94,0.5 -5.94,0 ; -5.44,0 -5.94,0 ; -2.48,0 -1.98,0 ; -1.98,-0.5 -1.98,0 ; -1.98,0.5 -1.98,0 ; -1.48,0 -1.98,0 ; -0.5,0 0,0 ; 0,-0.5 0,0 ; 0,0.5 0,0 ; 0.5,0 0,0 ; 1.48,0 1.98,0 ; 1.98,-0.5 1.98,0 ; 1.98,0.5 1.98,0 ; 2.48,0 1.98,0 ; 5.44,0 5.94,0 ; 5.94,-0.5 5.94,0 ; 5.94,0.5 5.94,0 ; 6.44,0 5.94,0 ; 9.4,0 9.9,0 ; 9.9,-0.5 9.9,0 ; 9.9,0.5 9.9,0 ; 10.4,0 9.9,0
3D body "MOLEX_26-60-4060.stp": height 14.73, standoff -3.56, extent -11.811,-4.902 11.811,5.106

## MOLEX_26-60-4070 [mm] "3.96mm (.156\") Pitch KK?Solid Header, Vertical, Friction Lock, 7 Circuits, Tin (Sn) Plating"
height 14.73
pads (7):
  round 2.4 hole 1.7: 1(-11.887,0) 2(-7.927,0) 3(-3.967,0) 4(-0.007,0) 5(3.953,0) 6(7.913,0) 7(11.875,0)
Top Overlay:
  circle w0.5: c-12.917,-2.2 r0.25
  lines w0.2: -13.792,4.089 -13.284,4.089 -13.284,1.041 -13.792,1.041 -13.792,-1.181 -12.967,-1.181 ; -13.284,3.182 -13.792,3.182 -13.792,5.105 13.792,5.105 13.792,3.182 13.284,3.182 ; -11.887,-4.267 1.346,-4.267 ; -11.887,-2.599 1.346,-2.599 ; -11.887,-2.413 1.346,-2.413 ; -11.887,-1.6 -11.887,-4.902 1.346,-4.902 1.346,-1.181 ; -10.808,-1.181 -9.004,-1.181 ; -6.845,-1.181 -5.042,-1.181 ; -2.883,-1.181 -1.079,-1.181 ; 1.079,-1.181 2.883,-1.181 ; 2.616,-4.267 11.887,-4.267 ; 2.616,-2.599 11.887,-2.599 ; 2.616,-2.413 11.887,-2.413 ; 2.616,-1.181 2.616,-4.902 11.887,-4.902 11.887,-1.6 ; 5.042,-1.181 6.845,-1.181 ; 9.004,-1.181 10.808,-1.181 ; 12.967,-1.181 13.792,-1.181 13.792,1.041 13.284,1.041 13.284,4.089 13.792,4.089
  text "1" at -12.155,1.65 h1
Top Designator:
  text ".Designator" at -7.617,-0.406 h1.52
Top Assembly:
  lines w0.1: -13.792,4.089 -13.284,4.089 -13.284,1.041 -13.792,1.041 -13.792,-1.181 13.792,-1.181 13.792,1.041 13.284,1.041 13.284,4.089 13.792,4.089 ; -13.284,3.182 -13.792,3.182 -13.792,5.105 13.792,5.105 13.792,3.182 13.284,3.182 ; -11.887,-4.267 1.346,-4.267 ; -11.887,-2.599 1.346,-2.599 ; -11.887,-2.413 1.346,-2.413 ; -11.887,-1.181 -11.887,-4.902 1.346,-4.902 1.346,-1.181 ; 2.616,-4.267 11.887,-4.267 ; 2.616,-2.599 11.887,-2.599 ; 2.616,-2.413 11.887,-2.413 ; 2.616,-1.181 2.616,-4.902 11.887,-4.902 11.887,-1.181 ; -12.458,-0.571 -12.458,0.571 -11.316,0.571 -11.316,-0.571 -12.458,-0.571 ; -8.498,-0.571 -8.498,0.571 -7.356,0.571 -7.356,-0.571 -8.498,-0.571 ; -4.538,-0.571 -4.538,0.571 -3.396,0.571 -3.396,-0.571 -4.538,-0.571 ; -0.578,-0.571 -0.578,0.571 0.564,0.571 0.564,-0.571 -0.578,-0.571 ; 3.382,-0.571 3.382,0.571 4.524,0.571 4.524,-0.571 3.382,-0.571 ; 7.344,-0.571 7.344,0.571 8.486,0.571 8.486,-0.571 7.344,-0.571 ; 11.294,-0.571 11.294,0.571 12.437,0.571 12.437,-0.571 11.294,-0.571
  text "1" at -12.155,1.65 h1
Top Component Center:
  lines w0.1: -12.387,0 -11.887,0 ; -11.887,-0.5 -11.887,0 ; -11.887,0.5 -11.887,0 ; -11.387,0 -11.887,0 ; -8.425,0 -7.925,0 ; -7.925,-0.5 -7.925,0 ; -7.925,0.5 -7.925,0 ; -7.425,0 -7.925,0 ; -4.462,0 -3.962,0 ; -3.962,-0.5 -3.962,0 ; -3.962,0.5 -3.962,0 ; -3.462,0 -3.962,0 ; -0.5,0 0,0 ; 0,-0.5 0,0 ; 0,0.5 0,0 ; 0.5,0 0,0 ; 3.462,0 3.962,0 ; 3.962,-0.5 3.962,0 ; 3.962,0.5 3.962,0 ; 4.462,0 3.962,0 ; 7.425,0 7.925,0 ; 7.925,-0.5 7.925,0 ; 7.925,0.5 7.925,0 ; 8.425,0 7.925,0 ; 11.387,0 11.887,0 ; 11.887,-0.5 11.887,0 ; 11.887,0.5 11.887,0 ; 12.387,0 11.887,0
3D body "MOLEX_26-60-4070.stp": height 14.72, standoff -3.56, extent -13.792,-4.902 13.792,5.105

## MOLEX_26-60-5040 [mm] "3.96mm (.156\") Pitch KK?Solid Header,Right Angle, 4 Circuits, Tin (Sn) Plating"
height 9
pads (4):
  round 2.4 hole 1.7: 1(-5.944,0) 2(-1.981,0) 3(1.981,0) 4(5.944,0)
Top Overlay:
  lines w0.2: -6.515,1.387 -6.515,5.918 ; -6.515,8.712 -6.515,20.142 -5.372,20.142 -5.372,16.739 ; -5.944,5.918 -7.214,5.918 -7.214,5.41 -7.849,5.41 -7.849,8.712 -5.944,8.712 ; -5.944,7.188 5.944,7.188 ; -5.372,1.387 -5.372,5.41 ; -2.553,1.387 -2.553,5.41 ; -2.553,16.739 -2.553,20.142 -1.41,20.142 -1.41,16.739 ; -1.41,1.387 -1.41,5.41 ; 1.41,1.387 1.41,5.41 ; 1.41,16.739 1.41,20.142 2.553,20.142 2.553,16.739 ; 2.553,1.387 2.553,5.41 ; 5.372,1.387 5.372,5.41 ; 5.372,16.739 5.372,20.142 6.515,20.142 6.515,8.712 ; 5.944,5.918 7.214,5.918 7.214,5.41 7.849,5.41 7.849,8.712 5.944,8.712 ; 6.515,1.387 6.515,5.918 ; -5.944,5.41 5.944,5.41 5.944,16.739 -5.944,16.739 -5.944,5.41
  text "1" at -7.388,1.62 h1
Top Designator:
  text ".Designator" at -7.618,8.962 h1.52
Top Assembly:
  lines w0.1: -6.515,5.918 -6.515,-0.572 ; -6.515,8.712 -6.515,20.142 -5.372,20.142 -5.372,16.739 ; -5.944,5.918 -7.214,5.918 -7.214,5.41 -7.849,5.41 -7.849,8.712 -5.944,8.712 ; -5.944,7.188 5.944,7.188 ; -5.372,5.41 -5.372,-0.572 ; -2.553,5.41 -2.553,-0.572 -1.41,-0.572 -1.41,5.41 ; -2.553,16.739 -2.553,20.142 -1.41,20.142 -1.41,16.739 ; 1.41,5.41 1.41,-0.572 2.553,-0.572 2.553,5.41 ; 1.41,16.739 1.41,20.142 2.553,20.142 2.553,16.739 ; 5.372,5.41 5.372,-0.572 6.515,-0.572 6.515,5.918 ; 5.372,16.739 5.372,20.142 6.515,20.142 6.515,8.712 ; 5.944,5.918 7.214,5.918 7.214,5.41 7.849,5.41 7.849,8.712 5.944,8.712 ; -6.515,-0.572 -5.372,-0.572 ; -6.515,-0.572 -5.372,-0.572 ; -5.944,5.41 5.944,5.41 5.944,16.739 -5.944,16.739 -5.944,5.41
  text "1" at -7.388,1.62 h1
Top Component Center:
  lines w0.1: -6.444,0 -5.944,0 ; -5.944,-0.5 -5.944,0 ; -5.944,0.5 -5.944,0 ; -5.444,0 -5.944,0 ; -2.481,0 -1.981,0 ; -1.981,-0.5 -1.981,0 ; -1.981,0.5 -1.981,0 ; -1.481,0 -1.981,0 ; -0.5,0 0,0 ; 0,-0.5 0,0 ; 0,0.5 0,0 ; 0.5,0 0,0 ; 1.481,0 1.981,0 ; 1.981,-0.5 1.981,0 ; 1.981,0.5 1.981,0 ; 2.481,0 1.981,0 ; 5.444,0 5.944,0 ; 5.944,-0.5 5.944,0 ; 5.944,0.5 5.944,0 ; 6.444,0 5.944,0
3D body "MOLEX_26-60-5040.stp": height 10.01, standoff -3.96, extent -7.848,-0.571 7.849,20.142
3D body "v240-170.stp": height 0.02, standoff -1.65, extent 4.744,-1.2 7.144,1.2
3D body "v240-170.stp": height 0.02, standoff -1.65, extent -3.181,-1.2 -0.781,1.2
3D body "v240-170.stp": height 0.02, standoff -1.65, extent 0.781,-1.2 3.181,1.2
3D body "v240-170.stp": height 0.02, standoff -1.65, extent -7.144,-1.2 -4.744,1.2